# Altium schematic symbol library opto.SchLib: 9 symbols
Pins are listed as number, name and electrical type; pins without a type are passive.

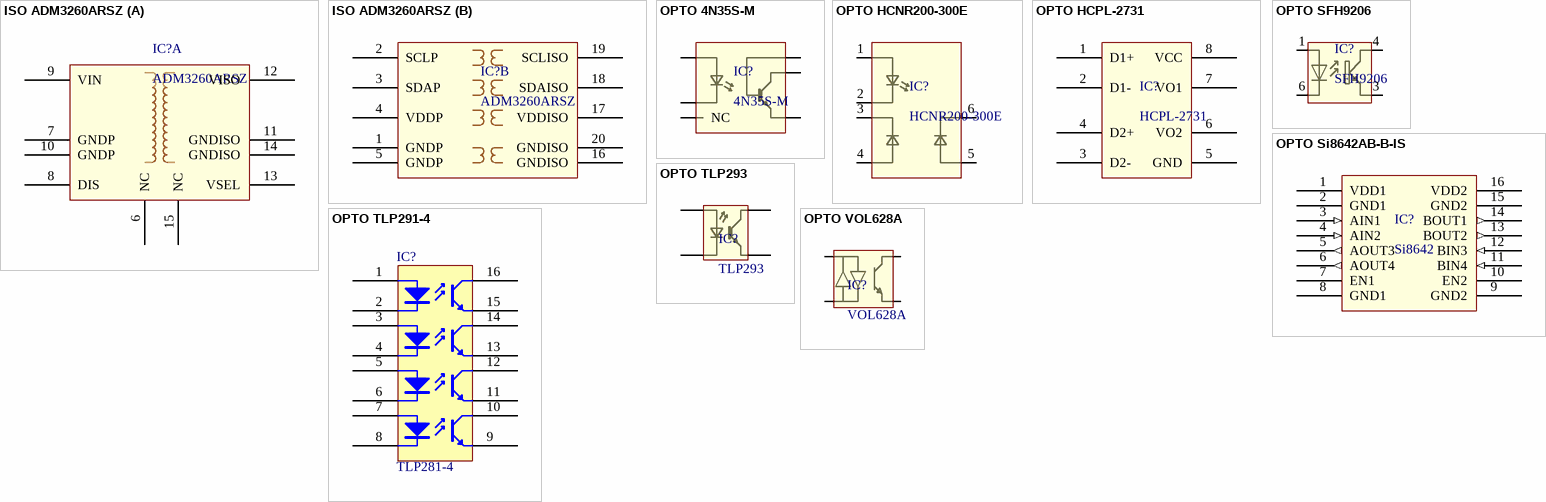
[diagram p0: symbols ISO ADM3260ARSZ to OPTO VOL628A]

## ISO ADM3260ARSZ
designator IC?, comment ADM3260ARSZ
ANALOG DEVICES ADM3260ARSZ Digital Isolator, 2 Channel, 3 V, 5.5 V intigrierter DC/DC; Manufacturer: Analog Devices; Manufacturer Part Number: ADM3260ARSZ; Created by: Nils Minor; Value: ADM3260ARSZ
footprint SOP65P780X200-20N (SOP, 20-Leads, Body 7,20x5,30mm, Pitch 0,65mm, IPC Medium Density)
part A pins: 6 NC, 7 GNDP, 8 DIS, 9 VIN, 10 GNDP, 11 GNDISO, 12 VISO, 13 VSEL, 14 GNDISO, 15 NC
part B pins: 1 GNDP, 2 SCLP, 3 SDAP, 4 VDDP, 5 GNDP, 16 GNDISO, 17 VDDISO, 18 SDAISO, 19 SCLISO, 20 GNDISO

## OPTO 4N35S-M
designator IC?, comment 4N35S-M
Optocoupler 1 Kanal, 7.5 kV, 60 mA, DIP,  Transistor Output; Manufacturer: ON Semiconductor; Manufacturer Part Number: 4N35SM; Value: 4N35SM; Created by: Nils Minor
footprint SMD DIP 6
pins: 1, 2, 3 NC, 4, 5, 6

## OPTO HCNR200-300E
designator IC?, comment HCNR200-300E
Optocoupler 5KV 8-DIP, Linearized Output; Manufacturer: Broadcom Avago; Manufacturer Part Number: HCNR200-300E; Created by: Nils Minor; Value: HCNR200-300E
footprint SMD DIP 8 - Gull Wing
pins: 1, 2, 3, 4, 5, 6

## OPTO HCPL-2731
designator IC?, comment HCPL-2731
Optocoupler (High Speed), 2 Kanal, 2500V 1.6mA; Manufacturer: Fairchild Semiconductor; Manufacturer Part Number: HCPL-2731SV; Value: HCPL-2731SV; Created by: Nils Minor
footprint HCPL-2731
pins: 1 D1+, 2 D1-, 3 D2-, 4 D2+, 5 GND, 6 VO2, 7 VO1, 8 VCC

## OPTO SFH9206
designator IC?, comment SFH9206
Reflex coupler Reverse SMD; Manufacturer: Osram; Manufacturer Part Number: SFH9206-6/7; Value: SFH9206-6/7; Created by: Nils Minor
footprint SFH9206
pins: 1, 3, 4, 6

## OPTO Si8642AB-B-IS
designator IC?, comment Si8642
Digital Isolators Quad Ch 2.5kV  SOIC16; Manufacturer: Silicon Labs; Manufacturer Part Number: Si8642AB-B-IS; Value: Si8642AB-B-IS; Created by: Nils Minor
footprint SOIC127P600X175-16N (SOIC, 16-Leads, Body 9,90x3,90mm, Pitch 1,27mm, IPC Medium Density)
pins: 1 VDD1, 2 GND1, 3 AIN1 (in), 4 AIN2 (in), 5 AOUT3 (out), 6 AOUT4 (out), 7 EN1, 8 GND1, 9 GND2, 10 EN2, 11 BIN4 (in), 12 BIN3 (in), 13 BOUT2 (out), 14 BOUT1 (out), 15 GND2, 16 VDD2

## OPTO TLP291-4
designator IC?, comment TLP281-4
Optocoupler, 4 Kanal, 2500V 50mA; Manufacturer: Toshiba; Manufacturer Part Number: TLP291-4(GB-TP,E(T; Value: TLP291-4(GB-TP,E(T; Created by: Nils Minor
footprint 11-4C1
pins: 1, 2, 3, 4, 5, 6, 7, 8, 9, 10, 11, 12, 13, 14, 15, 16

## OPTO TLP293
designator IC?, comment TLP293
Optocoupler 3.75KV TRANS 4-SO; Manufacturer: Toshiba; Manufacturer Part Number: TLP293(GR-TPL,E; Value: TLP293(GR-TPL,E; Created by: Nils Minor
footprint SO4
pins: 1, 2, 3, 4

## OPTO VOL628A
designator IC?, comment VOL628A
Optocoupler, 5kV; Manufacturer: Vishay; Manufacturer Part Number: VOL628A; Created by: Nils Minor; Value: VOL628A
footprint VOL628A
pins: 1, 2, 3, 4